# EAGLE library part 35RAPC7JS (library NewSDR)
Switchcraft Dual 3.5mm Phone Jack
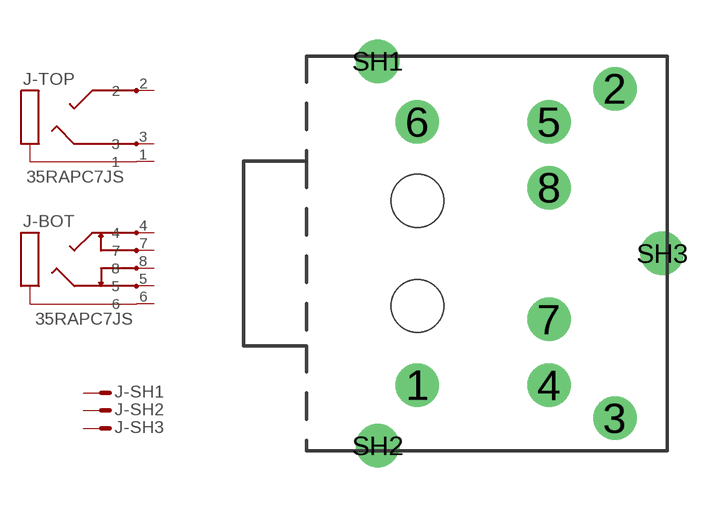
[diagram p222: symbol with the pads of 35RAPC7JS; footprint 35RAPC7JS]

Designator prefix J; gates -TOP=35RAPC7JS_TOP -SH1=M -SH2=M -SH3=M -BOT=35RAPC7JS_BOT

## 35RAPC7JS  [35RAPC7JS]
1  -TOP:1  pas
2  -TOP:2  pas
3  -TOP:3  pas
4  -BOT:4  pas
5  -BOT:5  pas
6  -BOT:6  pas
7  -BOT:7  pas
8  -BOT:8  pas
SH1  -SH1:M  pas
SH2  -SH2:M  pas
SH3  -SH3:M  pas

## Footprint 35RAPC7JS (pad centres in mm)
Switchcraft Dual 3.5mm Vertical Phone Jack
drill 1.1: 1 0,-5; 2 7.5,6.25; 3 7.5,-6.25; 4 5,-5; 5 5,5; 6 0,5; 7 5,-2.5; 8 5,2.5; SH1 -1.5,7.3; SH2 -1.5,-7.3; SH3 9.3,0
hole 2 at 0,-2
hole 2 at 0,2